# Altium footprint library 7.接插件封装.PcbLib: 201 footprints (part 2 of 13)
Each footprint in its own frame and in the unit in brackets; x right, y up, seen from the top. Pads: shape width x height; smd on the part's side, far side on the other; paste and mask are expansions set on the pad; w line width, h text height; cw(c..) or ccw(c..) is an arc to the next point about the centre after c.
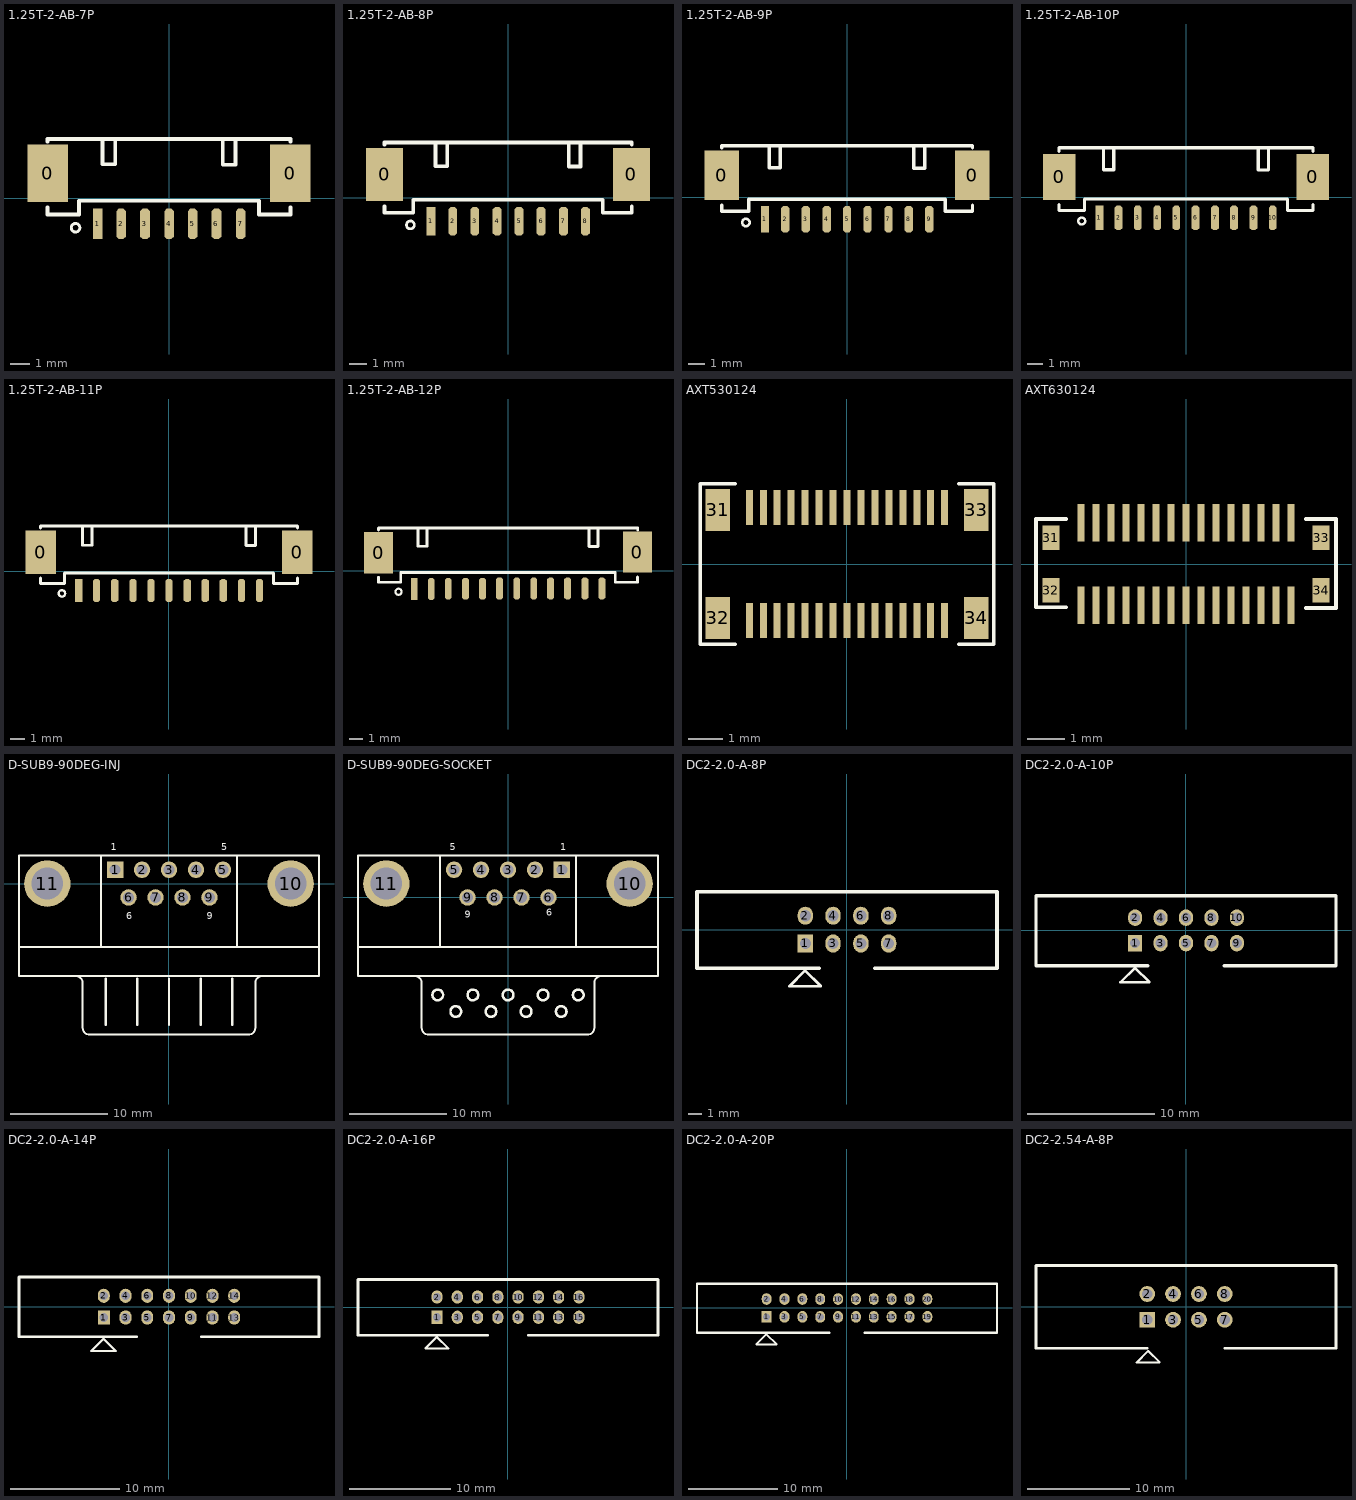
[diagram p1: the footprints below, top view; thin cyan lines are the x and y axes]

## 1.25T-2-AB-7P [mm]
pads (9):
  rect 2.1x3 smd: 0(-6.349,1.309) 0(6.34,1.309)
  rect 0.5x1.6 smd: 1(-3.74,-1.337)
  oct 0.5x1.6 smd: 2(-2.504,-1.337) 3(-1.261,-1.337) 4(0,-1.337) 5(1.235,-1.337) 6(2.479,-1.337) 7(3.74,-1.337)
Top Overlay:
  circle w0.15: c-4.891,-1.541 r0.224
  lines w0.203: -6.356,-0.483 -6.356,-0.854 -4.721,-0.854 -4.721,-0.127 4.702,-0.127 ; -6.356,2.972 -6.356,3.108 6.353,3.108 6.353,2.972 ; -3.476,3.108 -3.476,1.778 -2.816,1.778 -2.816,3.083 ; 2.807,3.083 2.807,1.753 3.467,1.753 3.467,3.058 ; 4.712,-0.127 4.712,-0.854 6.353,-0.854 6.353,-0.483

## 1.25T-2-AB-8P [mm]
pads (10):
  rect 2.1x3 smd: 0(-6.962,1.309) 0(6.962,1.309)
  rect 0.5x1.6 smd: 1(-4.353,-1.337)
  oct 0.5x1.6 smd: 2(-3.117,-1.337) 3(-1.874,-1.337) 4(-0.613,-1.337) 5(0.622,-1.337) 6(1.866,-1.337) 7(3.127,-1.337) 8(4.362,-1.337)
Top Overlay:
  circle w0.15: c-5.504,-1.541 r0.224
  lines w0.203: -6.969,-0.483 -6.969,-0.854 -5.334,-0.854 -5.334,-0.127 5.334,-0.127 5.334,-0.854 6.976,-0.854 6.976,-0.483 ; -6.969,2.972 -6.969,3.108 6.976,3.108 6.976,2.972 ; -4.089,3.108 -4.089,1.778 -3.429,1.778 -3.429,3.083 ; 3.429,3.083 3.429,1.753 4.089,1.753 4.089,3.058

## 1.25T-2-AB-9P [mm]
pads (11):
  rect 2.1x3 smd: 0(-7.584,1.309) 0(7.575,1.309)
  rect 0.5x1.6 smd: 1(-4.975,-1.337)
  oct 0.5x1.6 smd: 2(-3.74,-1.337) 3(-2.496,-1.337) 4(-1.235,-1.337) 5(0,-1.337) 6(1.243,-1.337) 7(2.504,-1.337) 8(3.74,-1.337) 9(4.975,-1.337)
Top Overlay:
  circle w0.15: c-6.126,-1.541 r0.224
  lines w0.203: -7.591,-0.483 -7.591,-0.854 -5.956,-0.854 -5.956,-0.127 5.931,-0.127 ; -7.591,2.972 -7.591,3.108 7.582,3.108 ; -4.712,3.108 -4.712,1.778 -4.051,1.778 -4.051,3.083 ; 4.042,3.083 4.042,1.753 4.702,1.753 4.702,3.058 ; 5.947,-0.127 5.947,-0.854 7.589,-0.854 7.589,-0.483 ; 7.589,2.972 7.589,3.108

## 1.25T-2-AB-10P [mm]
pads (12):
  rect 2.1x3 smd: 0(-8.214,1.312) 0(8.206,1.312)
  rect 0.5x1.6 smd: 1(-5.605,-1.334)
  oct 0.5x1.6 smd: 2(-4.37,-1.334) 3(-3.126,-1.334) 4(-1.865,-1.334) 5(-0.63,-1.334) 6(0.613,-1.334) 7(1.874,-1.334) 8(3.11,-1.334) 9(4.37,-1.334) 10(5.606,-1.334)
Top Overlay:
  circle w0.15: c-6.756,-1.539 r0.224
  lines w0.203: -8.221,-0.48 -8.221,-0.852 -6.586,-0.852 -6.586,-0.125 6.571,-0.125 ; -8.221,2.974 -8.221,3.203 8.22,3.203 8.22,2.974 ; -5.342,3.111 -5.342,1.78 -4.681,1.78 -4.681,3.085 ; 4.673,3.085 4.673,1.755 5.333,1.755 5.333,3.06 ; 6.578,-0.125 6.578,-0.852 8.22,-0.852 8.22,-0.48

## 1.25T-2-AB-11P [mm]
pads (13):
  rect 2.1x3 smd: 0(-8.828,1.309) 0(8.836,1.309)
  rect 0.5x1.6 smd: 1(-6.218,-1.337)
  oct 0.5x1.6 smd: 2(-4.983,-1.337) 3(-3.74,-1.337) 4(-2.479,-1.337) 5(-1.243,-1.337) 6(0,-1.337) 7(1.261,-1.337) 8(2.496,-1.337) 9(3.74,-1.337) 10(5,-1.337) 11(6.236,-1.337)
Top Overlay:
  circle w0.15: c-7.37,-1.541 r0.224
  lines w0.203: -8.835,-0.483 -8.835,-0.854 -7.2,-0.854 -7.2,-0.127 7.202,-0.127 ; -8.835,2.972 -8.835,3.108 8.828,3.108 ; -5.955,3.108 -5.955,1.778 -5.295,1.778 -5.295,3.083 ; 5.303,3.083 5.303,1.753 5.963,1.753 5.963,3.058 ; 7.208,-0.127 7.208,-0.854 8.85,-0.854 8.85,-0.483 ; 8.85,2.972 8.85,3.108

## 1.25T-2-AB-12P [mm]
pads (14):
  rect 2.1x3 smd: 0(-9.463,1.323) 0(9.436,1.364)
  rect 0.5x1.6 smd: 1(-6.853,-1.323)
  oct 0.5x1.6 smd: 2(-5.618,-1.323) 3(-4.375,-1.309) 4(-3.114,-1.309) 5(-1.878,-1.309) 6(-0.635,-1.295) 7(0.626,-1.295) 8(1.861,-1.295) 9(3.097,-1.295) 10(4.34,-1.282) 11(5.601,-1.282) 12(6.836,-1.282)
Top Overlay:
  circle w0.15: c-8.005,-1.527 r0.224
  lines w0.203: -9.47,-0.469 -9.47,-0.84 -7.835,-0.84 -7.835,-0.113 7.812,-0.113 7.812,-0.826 9.45,-0.826 9.45,-0.455 ; -9.47,2.986 -9.47,3.122 9.437,3.122 ; -6.59,3.122 -6.59,1.792 -5.93,1.792 -5.93,3.097 ; 5.903,3.111 5.903,1.78 6.564,1.78 6.564,3.085 ; 9.453,2.986 9.453,3.122

## AXT530124 [mm]
pads (34):
  rect 0.2x1 smd: 1(2.8,-1.625) 2(2.8,1.625) 3(2.4,-1.625) 4(2.4,1.625) 5(2,-1.625) 6(2,1.625) 7(1.6,-1.625) 8(1.6,1.625) 9(1.2,-1.625) 10(1.2,1.625) 11(0.8,-1.625) 12(0.8,1.625) 13(0.4,-1.625) 14(0.4,1.625) 15(0,-1.625) 16(0,1.625) 17(-0.4,-1.625) 18(-0.4,1.625) 19(-0.8,-1.625) 20(-0.8,1.625) 21(-1.2,-1.625) 22(-1.2,1.625) 23(-1.6,-1.625) 24(-1.6,1.625) 25(-2,-1.625) 26(-2,1.625) 27(-2.4,-1.625) 28(-2.4,1.625) 29(-2.8,-1.625) 30(-2.8,1.625)
  rect 0.7x1.2 smd: 31(-3.7,1.551) 32(-3.7,-1.546) 33(3.7,1.551) 34(3.7,-1.546)
Top Overlay:
  lines w0.1: -3.2,-2.3 -4.2,-2.3 -4.2,2.3 -3.2,2.3 ; 3.2,-2.3 4.2,-2.3 4.2,2.3 3.2,2.3

## AXT630124 [mm]
pads (34):
  rect 0.18x1 smd: 1(2.8,-1.1) 2(2.8,1.1) 3(2.4,-1.1) 4(2.4,1.1) 5(2,-1.1) 6(2,1.1) 7(1.6,-1.1) 8(1.6,1.1) 9(1.2,-1.1) 10(1.2,1.1) 11(0.8,-1.1) 12(0.8,1.1) 13(0.4,-1.1) 14(0.4,1.1) 15(0,-1.1) 16(0,1.1) 17(-0.4,-1.1) 18(-0.4,1.1) 19(-0.8,-1.1) 20(-0.8,1.1) 21(-1.2,-1.1) 22(-1.2,1.1) 23(-1.6,-1.1) 24(-1.6,1.1) 25(-2,-1.1) 26(-2,1.1) 27(-2.4,-1.1) 28(-2.4,1.1) 29(-2.8,-1.1) 30(-2.8,1.1)
  rect 0.45x0.655 smd: 31(-3.6,0.701) 32(-3.6,-0.696) 33(3.6,0.701) 34(3.6,-0.696)
Top Overlay:
  lines w0.1: -3.2,-1.15 -4,-1.15 -4,1.2 -3.2,1.2 ; 3.2,-1.175 4,-1.175 4,1.2 3.2,1.2

## D-SUB9-90DEG-INJ [mm] "Connector; D Subminiature; 9 Position; Right Angle; Pitch 1.385 mm"
height 12.75
pads (11):
  rect 1.69x1.69 hole 1.09: 1(-5.54,1.42)
  round 1.69 hole 1.09: 2(-2.77,1.42) 3(0,1.42) 4(2.77,1.42) 5(5.54,1.42) 6(-4.155,-1.42) 7(-1.385,-1.42) 8(1.385,-1.42) 9(4.155,-1.42)
  round 4.76 hole 3.26: 10(12.495,0) 11(-12.495,0)
Top Overlay:
  lines w0.2: -15.4,-6.5 15.4,-6.5 ; -9.56,-9.505 cw(c-9.56,-10.2) -8.865,-10.2 -8.865,-14.8 ; -8.86,-14.805 ccw(c-8.165,-14.805) -8.165,-15.5 8.165,-15.5 ccw(c8.165,-14.805) 8.86,-14.805 ; -7,-6.5 -7,2.9 ; 7,-6.5 7,2.9 ; 8.865,-14.8 8.865,-10.2 cw(c9.56,-10.2) 9.56,-9.505 ; -15.4,-9.5 -15.4,2.9 15.4,2.9 15.4,-9.5 -15.4,-9.5
  lines w0.254: -6.502,-14.478 -6.502,-9.779 ; -3.251,-14.478 -3.251,-9.779 ; 0,-14.478 0,-9.779 ; 3.251,-14.478 3.251,-9.779 ; 6.502,-14.478 6.502,-9.779
  text "1" at -5.959,3.427 h0.7
  text "5" at 5.341,3.427 h0.7
  text "9" at 3.89,-3.635 h0.7
  text "6" at -4.41,-3.635 h0.7

## D-SUB9-90DEG-SOCKET [mm] "Connector; D Subminiature; 9 Position; Right Angle; Pitch 1.385 mm"
height 12.75
pads (11):
  rect 1.69x1.69 hole 1.09: 1(5.54,2.84)
  round 1.69 hole 1.09: 2(2.77,2.84) 3(0,2.84) 4(-2.77,2.84) 5(-5.54,2.84) 6(4.155,0) 7(1.385,0) 8(-1.385,0) 9(-4.155,0)
  round 4.76 hole 3.26: 10(12.495,1.42) 11(-12.495,1.42)
Top Overlay:
  circle w0.254: c-5.359,-11.712 r0.547
  circle w0.254: c-1.753,-11.712 r0.547
  circle w0.254: c1.854,-11.712 r0.547
  circle w0.254: c5.461,-11.712 r0.547
  circle w0.254: c7.214,-10.01 r0.547
  circle w0.254: c3.607,-10.01 r0.547
  circle w0.254: c0,-10.01 r0.547
  circle w0.254: c-3.607,-10.01 r0.547
  circle w0.254: c-7.214,-10.01 r0.547
  lines w0.2: -15.4,-5.08 15.4,-5.08 ; -9.56,-8.085 cw(c-9.56,-8.78) -8.865,-8.78 -8.865,-13.38 ; -8.86,-13.385 ccw(c-8.165,-13.385) -8.165,-14.08 8.165,-14.08 ccw(c8.165,-13.385) 8.86,-13.385 ; -7,-5.08 -7,4.32 ; 7,-5.08 7,4.32 ; 8.865,-13.38 8.865,-8.78 cw(c9.56,-8.78) 9.56,-8.085 ; -15.4,-8.08 -15.4,4.32 15.4,4.32 15.4,-8.08 -15.4,-8.08
  text "5" at -5.959,4.847 h0.7
  text "1" at 5.341,4.847 h0.7
  text "9" at -4.415,-2.062 h0.7
  text "6" at 3.947,-1.885 h0.7

## DC2-2.0-A-8P [mm]
pads (8):
  rect 1.1x1.3 hole 0.8: 1(-3,-1)
  oval 1.1x1.3 hole 0.8: 2(-3,1) 3(-1,-1) 4(-1,1) 5(1,-1) 6(1,1) 7(3,-1) 8(3,1)
Top Overlay:
  lines w0.2: -1.893,-4.077 -4.151,-4.077 -3.022,-2.943 -1.888,-4.072
  lines w0.254: -10.8,-2.775 -10.8,2.725 10.768,2.725 ; -10.796,-2.775 -2,-2.775 ; 2,-2.775 10.756,-2.775 ; 10.8,-2.775 10.8,2.725

## DC2-2.0-A-10P [mm]
pads (10):
  rect 1.1x1.3 hole 0.8: 1(-4,-1)
  oval 1.1x1.3 hole 0.8: 2(-4,1) 3(-2,-1) 4(-2,1) 5(0,-1) 6(0,1) 7(2,-1) 8(2,1) 9(4,-1) 10(4,1)
Top Overlay:
  lines w0.2: -2.893,-4.077 -5.151,-4.077 -4.022,-2.943 -2.888,-4.072
  lines w0.254: -3,-2.775 -11.8,-2.775 -11.8,2.725 11.782,2.725 ; 3,-2.775 11.8,-2.775 11.8,2.725

## DC2-2.0-A-14P [mm]
pads (14):
  rect 1.1x1.3 hole 0.8: 1(-6,-1)
  oval 1.1x1.3 hole 0.8: 2(-6,1) 3(-4,-1) 4(-4,1) 5(-2,-1) 6(-2,1) 7(0,-1) 8(0,1) 9(2,-1) 10(2,1) 11(4,-1) 12(4,1) 13(6,-1) 14(6,1)
Top Overlay:
  lines w0.2: -4.893,-4.077 -7.151,-4.077 -6.022,-2.943 -4.888,-4.072
  lines w0.254: -3,-2.775 -13.8,-2.775 -13.8,2.725 13.795,2.725 ; 3,-2.775 13.8,-2.775 13.8,2.725

## DC2-2.0-A-16P [mm]
pads (16):
  rect 1.1x1.3 hole 0.8: 1(-7,-1)
  oval 1.1x1.3 hole 0.8: 2(-7,1) 3(-5,-1) 4(-5,1) 5(-3,-1) 6(-3,1) 7(-1,-1) 8(-1,1) 9(1,-1) 10(1,1) 11(3,-1) 12(3,1) 13(5,-1) 14(5,1) 15(7,-1) 16(7,1)
Top Overlay:
  lines w0.2: -5.893,-4.077 -8.151,-4.077 -7.022,-2.943 -5.888,-4.072
  lines w0.254: -14.8,-2.775 -14.8,2.725 14.776,2.725 ; -14.789,-2.775 -2,-2.775 ; 2,-2.775 14.802,-2.775 ; 14.8,-2.775 14.8,2.725

## DC2-2.0-A-20P [mm]
pads (20):
  rect 1.1x1.3 hole 0.8: 1(-9,-1)
  oval 1.1x1.3 hole 0.8: 2(-9,1) 3(-7,-1) 4(-7,1) 5(-5,-1) 6(-5,1) 7(-3,-1) 8(-3,1) 9(-1,-1) 10(-1,1) 11(1,-1) 12(1,1) 13(3,-1) 14(3,1) 15(5,-1) 16(5,1) 17(7,-1) 18(7,1) 19(9,-1) 20(9,1)
Top Overlay:
  lines w0.2: -7.893,-4.077 -10.151,-4.077 -9.022,-2.943 -7.888,-4.072
  lines w0.254: -2,-2.775 -16.8,-2.775 -16.8,2.725 16.8,2.725 16.8,-2.775 2,-2.775

## DC2-2.54-A-8P [mm]
pads (8):
  rect 1.55x1.55 hole 1: 1(-3.81,-1.27)
  round 1.55 hole 1: 2(-3.81,1.27) 3(-1.27,-1.27) 4(-1.27,1.27) 5(1.27,-1.27) 6(1.27,1.27) 7(3.81,-1.27) 8(3.81,1.27)
Top Overlay:
  lines w0.2: -2.598,-5.464 -4.856,-5.464 -3.727,-4.33 -2.593,-5.459
  lines w0.254: -3.81,-4.064 -14.732,-4.064 -14.732,4.064 14.732,4.064 14.732,-4.064 3.81,-4.064